# EAGLE library part DSPIC33FJ32GP202-I/MM (library Microchip_By_element14_Batch_1)
16-bit Digital Signal Controllers
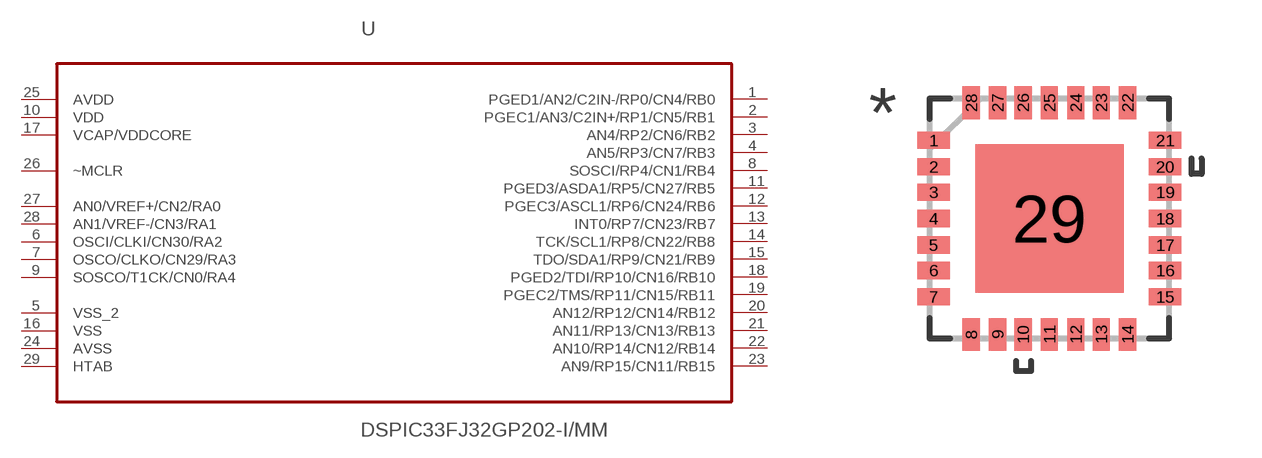
[diagram p395: symbol with the pads of QFN65P600X600X100-29N; footprint QFN65P600X600X100-29N]

Designator prefix -

## DSPIC33FJ32GP202-I/MM (MPN: DSPIC33FJ32GP202-I/MM; OC_FARNELL: 1576911; OC_NEWARK: 39M8164; PACKAGE: QFN-28; SUPPLIER: Microchip)  [QFN65P600X600X100-29N]
1  PGED1/AN2/C2IN-/RP0/CN4/RB0
2  PGEC1/AN3/C2IN+/RP1/CN5/RB1
3  AN4/RP2/CN6/RB2
4  AN5/RP3/CN7/RB3
5  VSS_2  pwr
6  OSCI/CLKI/CN30/RA2
7  OSCO/CLKO/CN29/RA3
8  SOSCI/RP4/CN1/RB4
9  SOSCO/T1CK/CN0/RA4
10  VDD  pwr
11  PGED3/ASDA1/RP5/CN27/RB5
12  PGEC3/ASCL1/RP6/CN24/RB6
13  INT0/RP7/CN23/RB7
14  TCK/SCL1/RP8/CN22/RB8
15  TDO/SDA1/RP9/CN21/RB9
16  VSS  pwr
17  VCAP/VDDCORE  pwr
18  PGED2/TDI/RP10/CN16/RB10
19  PGEC2/TMS/RP11/CN15/RB11
20  AN12/RP12/CN14/RB12
21  AN11/RP13/CN13/RB13
22  AN10/RP14/CN12/RB14
23  AN9/RP15/CN11/RB15
24  AVSS  pwr
25  AVDD  pwr
26  ~MCLR  in
27  AN0/VREF+/CN2/RA0
28  AN1/VREF-/CN3/RA1
29  HTAB  pas

## Footprint QFN65P600X600X100-29N (pad centres in mm)
smd 0.813 x 0.432: 1 -2.896,1.956; 2 -2.896,1.295; 3 -2.896,0.66; 4 -2.896,0; 5 -2.896,-0.66; 6 -2.896,-1.295; 7 -2.896,-1.956; 15 2.896,-1.956; 16 2.896,-1.295; 17 2.896,-0.66; 18 2.896,0; 19 2.896,0.66; 20 2.896,1.295; 21 2.896,1.956
smd 0.432 x 0.813: 8 -1.956,-2.896; 9 -1.295,-2.896; 10 -0.66,-2.896; 11 0,-2.896; 12 0.66,-2.896; 13 1.295,-2.896; 14 1.956,-2.896; 22 1.956,2.896; 23 1.295,2.896; 24 0.66,2.896; 25 0,2.896; 26 -0.66,2.896; 27 -1.295,2.896; 28 -1.956,2.896
smd 3.708 x 3.708: 29 0,0